# EAGLE library part 104H-TDA0-R (library con-sd-attend2)
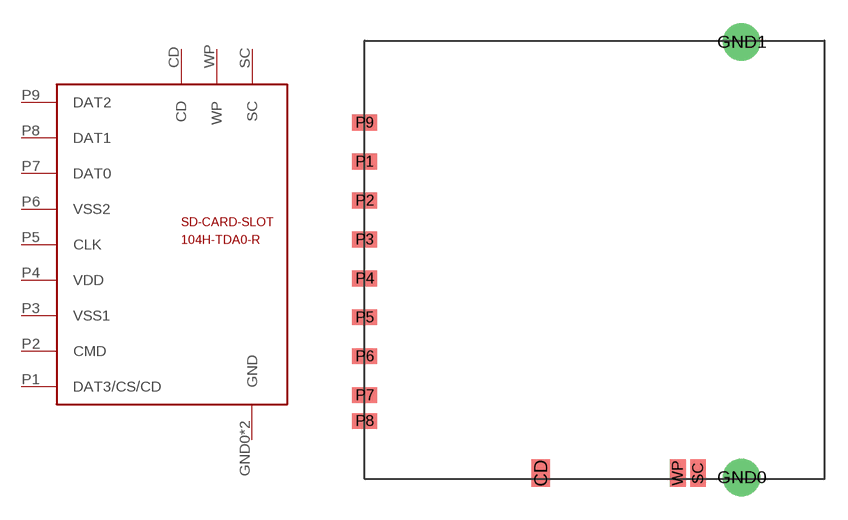
[diagram p1: symbol with the pads of 104H-TDA0-R; footprint 104H-TDA0-R]

Designator prefix -

## 104H-TDA0-R  [104H-TDA0-R]
CD  CD
GND0  GND
GND1  GND
P1  DAT3/CS/CD
P2  CMD
P3  VSS1
P4  VDD
P5  CLK
P6  VSS2
P7  DAT0
P8  DAT1
P9  DAT2
SC  SC
WP  WP

## Footprint 104H-TDA0-R (pad centres in mm)
smd 1.2 x 1.75: CD 11.3,-13.125
drill 1.6: GND0 24.2,-13.4; GND1 24.2,14.55
smd 1.6 x 1: P1 0,6.875; P2 0,4.375; P3 0,1.875; P4 0,-0.625; P5 0,-3.125; P6 0,-5.625; P7 0,-8.125; P8 0,-9.775; P9 0,9.375
smd 1 x 1.75: SC 21.4,-13.125; WP 20.1,-13.125